# Altium footprint library LC_EXT_P_lib.PcbLib: 13 footprints
Each footprint in its own frame and in the unit in brackets; x right, y up, seen from the top. Pads: shape width x height; smd on the part's side, far side on the other; paste and mask are expansions set on the pad; w line width, h text height; cw(c..) or ccw(c..) is an arc to the next point about the centre after c.
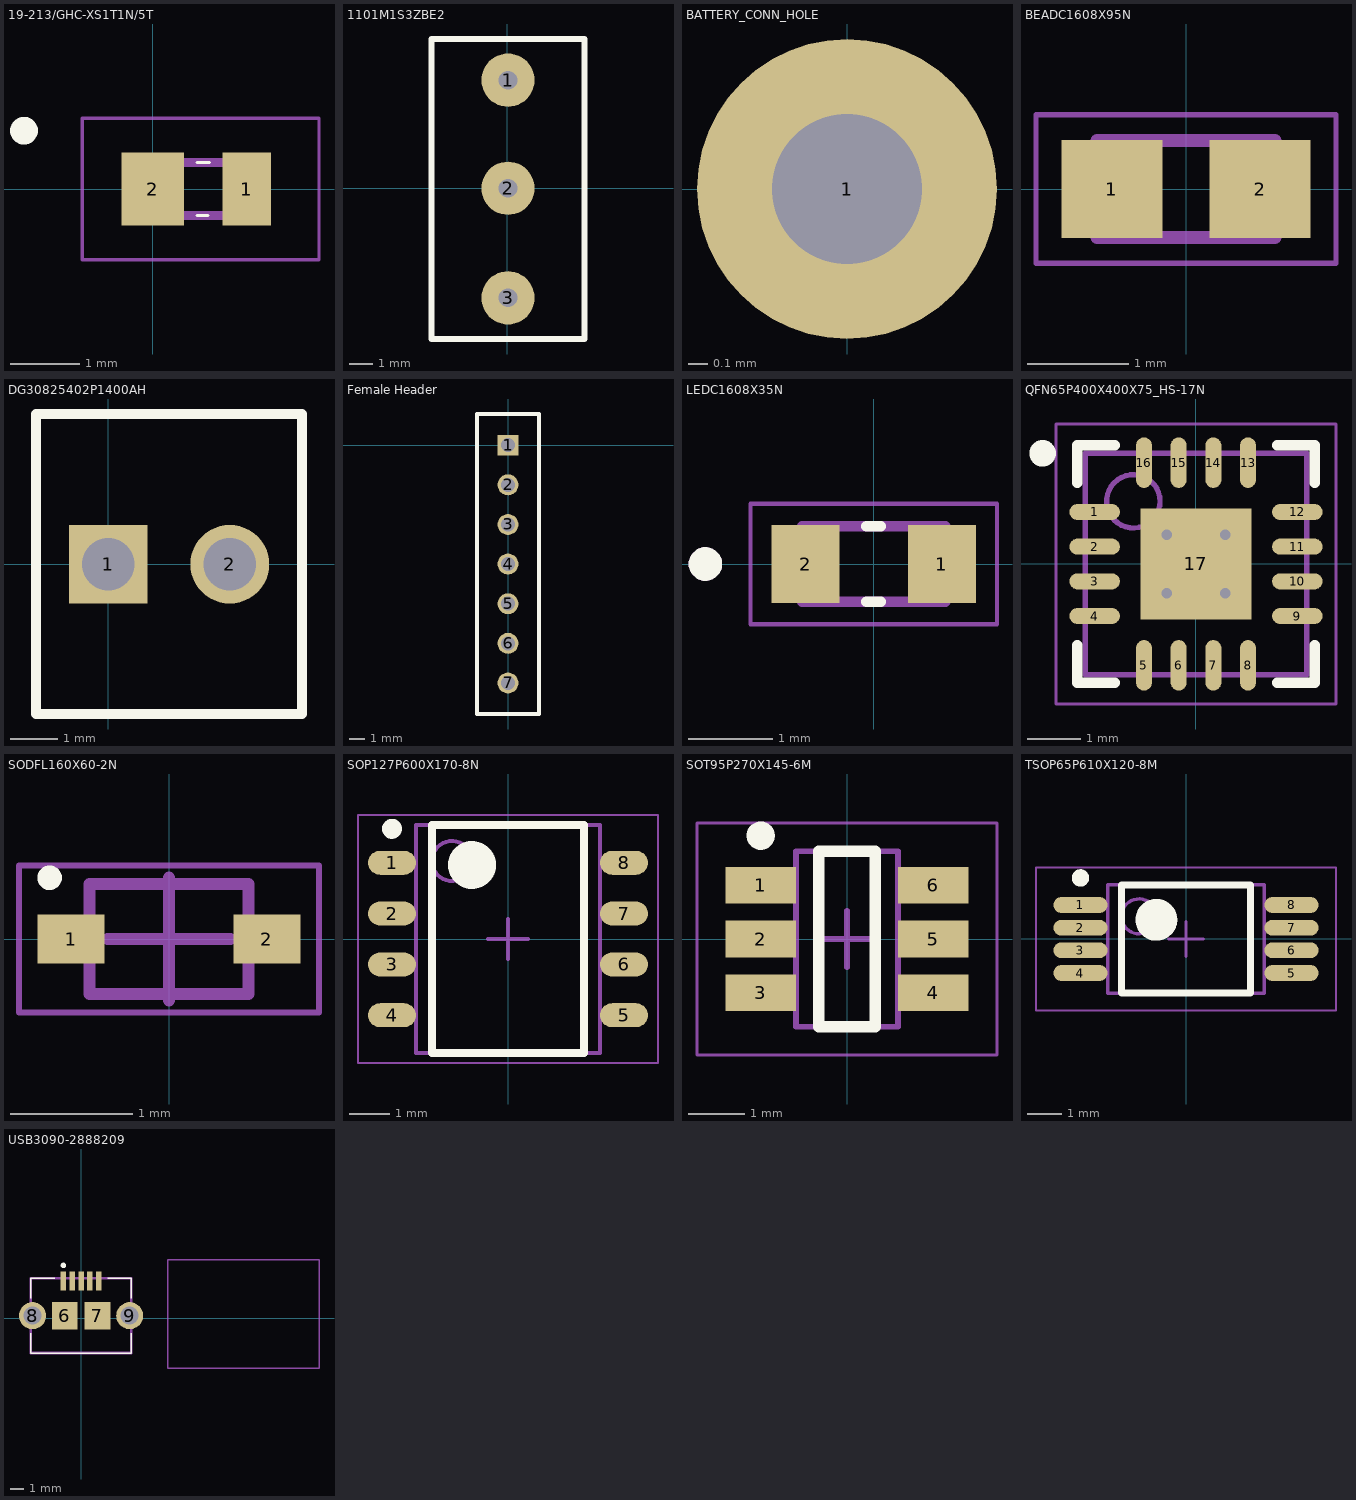
[diagram p0: the footprints below, top view; thin cyan lines are the x and y axes]

## 19-213/GHC-XS1T1N/5T [mm]
pads (2):
  rect 0.7x1.05 smd: 1(1.35,0)
  rect 0.9x1.05 smd: 2(0,0)
Top Overlay:
  circle w0.254: c-1.854,0.838 r0.072
  lines w0.05: 0.635,-0.381 0.787,-0.381 ; 0.635,0.381 0.813,0.381
Mechanical 1:
  lines w0.05: -0.127,-0.381 -0.127,0.381
Mechanical 13:
  lines w0.05: -0.127,-0.381 -0.127,0.381 0,0.381 ; 1.473,-0.381 1.473,0.381
  lines w0.127: -0.127,-0.381 1.473,-0.381 ; 0,0.381 1.473,0.381
Mechanical 15:
  lines w0.05: -1.016,-1.016 2.388,-1.016 2.388,1.016 0,1.016 -1.016,1.016 -1.016,-1.016
3D body "LTST-C190KGKT.STEP": height 0.81, standoff 0.01, extent -0.114,-0.4 1.486,0.4

## 1101M1S3ZBE2 [mm] "Switch: slide"
pads (3):
  round 2.3 hole 0.8: 1(0.025,4.675) 2(0.025,0.005) 3(0.025,-4.725)
Top Overlay:
  lines w0.254: -3.275,-6.5 -3.275,6.45 3.325,6.45 3.325,-6.5 -3.275,-6.5

## BATTERY_CONN_HOLE [mil] "Pin hole to connect battery charger"
pads (1):
  round 60 hole 30: 1(0,0)

## BEADC1608X95N [mm]
pads (2):
  rect 1x0.97 smd: 1(-0.735,0) 2(0.735,0)
Mechanical 13:
  lines w0.127: -0.88,-0.48 -0.88,0.48 0.88,0.48 0.88,-0.48 -0.88,-0.48
Mechanical 15:
  lines w0.05: -1.485,-0.735 -1.485,0.735 1.485,0.735 1.485,-0.735 -1.485,-0.735
3D body "BLM18BB600SN1D.STEP": height 0.95, standoff 0, extent -0.8,-0.4 0.8,0.4

## DG30825402P1400AH [mm] "Battery connector"
pads (2):
  rect 1.65x1.65 hole 1.1: 1(0,0)
  round 1.65 hole 1.1: 2(2.54,0)
Top Overlay:
  lines w0.2: -1.51,-3.13 -1.51,3.14 4.05,3.14 4.05,-3.13 -1.51,-3.13
Mechanical 15:
  lines w0.1: -1.51,-3.13 -1.51,3.14 4.05,3.14 4.05,-3.13 -1.51,-3.13
3D body "DG308-2.54-02P-14-00AH.stp": height 5.8, standoff -4.65, extent -10,-3.376 10,3.376

## Female Header [mm] "Female header connector x7 pins e=2.54"
pads (7):
  rect 1.34x1.34 hole 0.9: 1(0,0)
  round 1.34 hole 0.9: 2(0,-2.54) 3(0,-5.08) 4(0,-7.62) 5(0,-10.16) 6(0,-12.7) 7(0,-15.24)
Top Overlay:
  lines w0.254: -2,-17.229 -2,2 0,2 2,2 2,-17.219 -2,-17.229

## LEDC1608X35N [mm]
pads (2):
  rect 0.81x0.93 smd: 1(0.81,0) 2(-0.81,0)
Top Overlay:
  circle w0.2: c-2,0 r0.1
  lines w0.127: -0.085,-0.45 0.085,-0.45 ; -0.085,0.45 0.085,0.45
Mechanical 13:
  circle w0.2: c-2,0 r0.1
  lines w0.127: -0.85,-0.45 0.85,-0.45 0.85,0.45 -0.85,0.45 -0.85,-0.45
Mechanical 15:
  lines w0.05: -1.465,-0.715 1.465,-0.715 1.465,0.715 -1.465,0.715 -1.465,-0.715
3D body "step_temp.STEP": height 0.8, standoff 0, extent -0.8,-0.4 0.8,0.4

## QFN65P400X400X75_HS-17N [mm] "QFN, 16-Leads, Body 4.00x4.00mm, Pitch 0.65mm, Thermal Pad 2.08x2.08mm, IPC Medium Density"
height 0.75
pads (17):
  oval 0.95x0.3 smd: 1(-1.9,0.975) 2(-1.9,0.325) 3(-1.9,-0.325) 4(-1.9,-0.975) 9(1.9,-0.975) 10(1.9,-0.325) 11(1.9,0.325) 12(1.9,0.975)
  oval 0.3x0.95 smd: 5(-0.975,-1.9) 6(-0.325,-1.9) 7(0.325,-1.9) 8(0.975,-1.9) 13(0.975,1.9) 14(0.325,1.9) 15(-0.325,1.9) 16(-0.975,1.9)
  rect 2.08x2.08 smd: 17(0,0)
via -0.55,0.55 diameter 0.5 hole 0.2
via 0.55,0.55 diameter 0.5 hole 0.2
via -0.55,-0.55 diameter 0.5 hole 0.2
via 0.55,-0.55 diameter 0.5 hole 0.2
Top Overlay:
  circle w0.25: c-2.875,2.075 r0.125
  lines w0.2: -2.225,-1.525 -2.225,-2.225 -1.525,-2.225 ; -2.225,1.525 -2.225,2.225 -1.525,2.225 ; 1.525,-2.225 2.225,-2.225 2.225,-1.525 ; 1.525,2.225 2.225,2.225 2.225,1.525
Mechanical 13:
  circle w0.1: c-1.175,1.175 r0.5
  lines w0.1: -2.075,-2.075 -2.075,2.075 2.075,2.075 2.075,-2.075 -2.075,-2.075
Mechanical 15:
  lines w0.05: -2.625,-2.625 -2.625,2.625 2.625,2.625 2.625,-2.625 -2.625,-2.625
  lines w0.1: -0.5,0 0.5,0 ; 0,-0.5 0,0.5
3D body "QFN65P400X400X75_HS-17N.step": height 0.75, standoff 0, extent -2.275,-2.275 2.275,2.275

## SODFL160X60-2N [mm] "SODFL, 2-Leads, Body 0.80x1.60mm, IPC Medium Density"
height 0.6
pads (2):
  rect 0.55x0.4 smd: 1(-0.8,0) 2(0.8,0)
Top Overlay:
  circle w0.1: c-0.975,0.5 r0.05
Mechanical 13:
  lines w0.1: -0.65,-0.45 -0.65,0.45 0.65,0.45 0.65,-0.45 -0.65,-0.45
Mechanical 15:
  lines w0.05: -1.225,-0.6 -1.225,0.6 1.225,0.6 1.225,-0.6 -1.225,-0.6
  lines w0.1: -0.5,0 0.5,0 ; 0,-0.5 0,0.5
3D body "SODFL160X60-2N.step": height 0.6, standoff 0, extent -0.8,-0.45 0.8,0.45

## SOP127P600X170-8N [mm] "SOP, 8-Leads, Body 5.50x4.40mm, Pitch 1.27mm, IPC Medium Density"
height 1.7
pads (8):
  oval 1.2x0.6 smd: 1(-2.9,1.905) 2(-2.9,0.635) 3(-2.9,-0.635) 4(-2.9,-1.905) 5(2.9,-1.905) 6(2.9,-0.635) 7(2.9,0.635) 8(2.9,1.905)
Top Overlay:
  circle w0.25: c-2.9,2.755 r0.125
  circle w0.6: c-0.9,1.85 r0.3
  lines w0.2: -1.9,-2.85 -1.9,2.85 1.9,2.85 1.9,-2.85 -1.9,-2.85
Mechanical 13:
  circle w0.1: c-1.4,1.95 r0.5
  lines w0.1: -2.3,-2.85 -2.3,2.85 2.3,2.85 2.3,-2.85 -2.3,-2.85
Mechanical 15:
  lines w0.05: -3.75,-3.1 -3.75,3.1 3.75,3.1 3.75,-3.1 -3.75,-3.1
  lines w0.1: -0.5,0 0.5,0 ; 0,-0.5 0,0.5
3D body "SOP127P600X170-8N.step": height 1.7, standoff 0, extent -3,-2.85 3,2.85

## SOT95P270X145-6M [mm] "SOT23, 6-Leads, Body 2.90x2.70mm, Pitch 0.95mm, IPC Low Density"
height 1.45
pads (6):
  rect 1.25x0.65 smd: 1(-1.525,0.95) 2(-1.525,0) 3(-1.525,-0.95) 4(1.525,-0.95) 5(1.525,0) 6(1.525,0.95)
Top Overlay:
  circle w0.25: c-1.525,1.825 r0.125
  lines w0.2: -0.5,-1.55 -0.5,1.55 0.5,1.55 0.5,-1.55 -0.5,-1.55
Mechanical 13:
  lines w0.1: -0.9,-1.55 0.9,-1.55 0.9,1.55 -0.9,1.55 -0.9,-1.55
Mechanical 15:
  lines w0.05: -2.65,-2.05 2.65,-2.05 2.65,2.05 -2.65,2.05 -2.65,-2.05
  lines w0.1: -0.5,0 0.5,0 ; 0,-0.5 0,0.5
3D body "SOT95P270X145-6M.step": height 1.45, standoff 0, extent -1.7,-1.55 1.7,1.55

## TSOP65P610X120-8M [mm] "TSOP, 8-Leads, Body 3,00x4,40mm, Pitch 0,65mm, IPC Low Density"
height 1.2
pads (8):
  oval 1.55x0.45 smd: 1(-3.025,0.975) 2(-3.025,0.325) 3(-3.025,-0.325) 4(-3.025,-0.975) 5(3.025,-0.975) 6(3.025,-0.325) 7(3.025,0.325) 8(3.025,0.975)
Top Overlay:
  circle w0.25: c-3.025,1.75 r0.125
  circle w0.6: c-0.85,0.55 r0.3
  lines w0.2: -1.85,-1.55 -1.85,1.55 1.85,1.55 1.85,-1.55 -1.85,-1.55
Mechanical 13:
  circle w0.1: c-1.35,0.65 r0.5
  lines w0.1: -2.25,-1.55 -2.25,1.55 2.25,1.55 2.25,-1.55 -2.25,-1.55
Mechanical 15:
  lines w0.05: -4.3,-2.05 -4.3,2.05 4.3,2.05 4.3,-2.05 -4.3,-2.05
  lines w0.1: -0.5,0 0.5,0 ; 0,-0.5 0,0.5
3D body "TSOP65P610X120-8M.step": height 1.2, standoff 0, extent -3.05,-1.55 3.05,1.55

## USB3090-2888209 [mm] "USB Connectors Micro A/B Skt,Bottom-SMT, R/A, 30u No Peg, W/shell stake,T&R"
pads (9):
  rect 0.4x1.4 smd: 1(-1.3,2.753) 2(-0.65,2.753) 3(0,2.753) 4(0.65,2.753) 5(1.3,2.753)
  rect 1.9x2 smd: 6(-1.2,0.203) 7(1.2,0.203)
  round 1.993 hole 1.328: 8(-3.575,0.203) 9(3.575,0.203)
Top Overlay:
  lines w0.1: -3.7,-1.097 -3.7,-2.547 3.7,-2.547 3.7,-1.097 ; -3.7,1.503 -3.7,2.953 -1.95,2.953 ; 1.95,2.953 3.7,2.953 3.7,1.503
  lines w0.2: -1.4,3.903 ccw(c-1.3,3.903) -1.2,3.903 ccw(c-1.3,3.903) -1.4,3.903
Mechanical 15:
  lines w0.2: -3.7,-2.547 3.7,-2.547 3.7,2.953 -3.7,2.953 -3.7,-2.547
Mechanical 20:
  lines w0.1: 6.367,-3.674 17.509,-3.674 17.509,4.326 6.367,4.326 6.367,-3.674
3D body "USB3090-30-A--3DModel-STEP-56544.STEP": height 2.67, standoff -1.04, extent -3.863,-2.554 3.937,2.946